# Altium schematic symbol library AD8334ACPZ.SchLib: 1 symbol
Pins are listed as number, name and electrical type; pins without a type are passive.

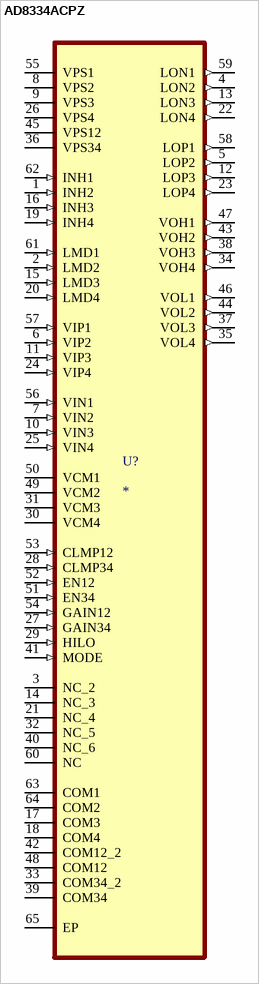
[diagram p0: symbol AD8334ACPZ]

## AD8334ACPZ
designator U?
Ultralow Noise VGAs; MP: AD8334ACPZ; MF: {'manufacturer': u'Analog Devices'}; Price: None; Value: *; Availability: Unavailable; Package: None
footprint QFN50P900X900X100-65N
pins: 1 INH2 (in), 2 LMD2 (in), 3 NC_2, 4 LON2 (out), 5 LOP2 (out), 6 VIP2 (in), 7 VIN2 (in), 8 VPS2 (power), 9 VPS3 (power), 10 VIN3 (in), 11 VIP3 (in), 12 LOP3 (out), 13 LON3 (out), 14 NC_3, 15 LMD3 (in), 16 INH3 (in), 17 COM3, 18 COM4, 19 INH4 (in), 20 LMD4 (in), 21 NC_4, 22 LON4 (out), 23 LOP4 (out), 24 VIP4 (in), 25 VIN4 (in), 26 VPS4 (power), 27 GAIN34 (in), 28 CLMP34 (in), 29 HILO (in), 30 VCM4, 31 VCM3, 32 NC_5, 33 COM34_2, 34 VOH4 (out), 35 VOL4 (out), 36 VPS34 (power), 37 VOL3 (out), 38 VOH3 (out), 39 COM34, 40 NC_6, 41 MODE (in), 42 COM12_2, 43 VOH2 (out), 44 VOL2 (out), 45 VPS12 (power), 46 VOL1 (out), 47 VOH1 (out), 48 COM12, 49 VCM2, 50 VCM1, 51 EN34 (in), 52 EN12 (in), 53 CLMP12 (in), 54 GAIN12 (in), 55 VPS1 (power), 56 VIN1 (in), 57 VIP1 (in), 58 LOP1 (out), 59 LON1 (out), 60 NC, 61 LMD1 (in), 62 INH1 (in), 63 COM1, 64 COM2, 65 EP